# Altium schematic symbol library RF Amplifiers.SchLib: 1 symbol
Pins are listed as number, name and electrical type; pins without a type are passive.

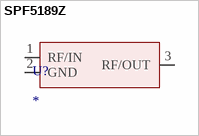
[diagram p0: symbol SPF5189Z]

## SPF5189Z
designator U?
SPF5189Z
footprint SOT-89 (SOT-89 / 3)
pins: 1 RF/IN, 2 GND, 3 RF/OUT